# EAGLE library part SR6A4* (library relay)
Safety Relay SR6 SCHRACK sensitive 6 pole 8 A Source: http://www.schrack.com/.. 6688.pdf
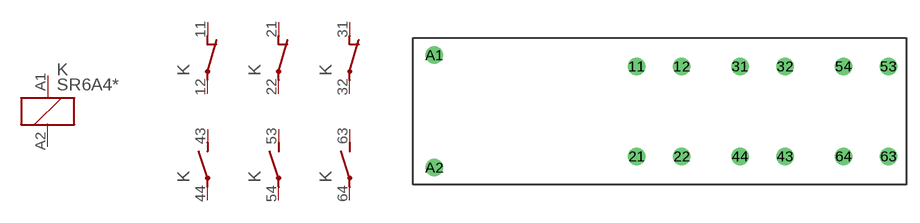
[diagram p139: symbol with the pads of SR6A; footprint SR6A]

Designator prefix K; gates 1=K 2=O 3=O 4=O 5=S 6=S 7=S

## SR6A4S05, SR6A4S06, SR6A4S09, SR6A4S12, SR6A4S15, SR6A4S18, SR6A4S21, SR6A4S24, SR6A4S36, SR6A4S40, SR6A4S48  [SR6A]
11  2:O  pas
12  2:P  pas
21  3:O  pas
22  3:P  pas
31  4:O  pas
32  4:P  pas
43  5:S  pas
44  5:P  pas
53  6:S  pas
54  6:P  pas
63  7:S  pas
64  7:P  pas
A1  1:1  pas
A2  1:2  pas

## Footprint SR6A (pad centres in mm)
Safety Relay SR6 SCHRACK sensitive 6 pole 8 A, Type A and B Source: http://www.schrack.com/.. 6688.pdf
drill 1.3 pad 1: 11 -0.3,4.7; 12 4.7,4.7; 21 -0.3,-5.3; 22 4.7,-5.3; 31 11.2,4.7; 32 16.2,4.7; 43 16.2,-5.3; 44 11.2,-5.3; 53 27.7,4.7; 54 22.7,4.7; 63 27.7,-5.3; 64 22.7,-5.3; A1 -22.8,5.95; A2 -22.8,-6.55